# Altium schematic symbol library Altium_main_lib.SchLib: 81 symbols
Pins are listed as number, name and electrical type; pins without a type are passive.

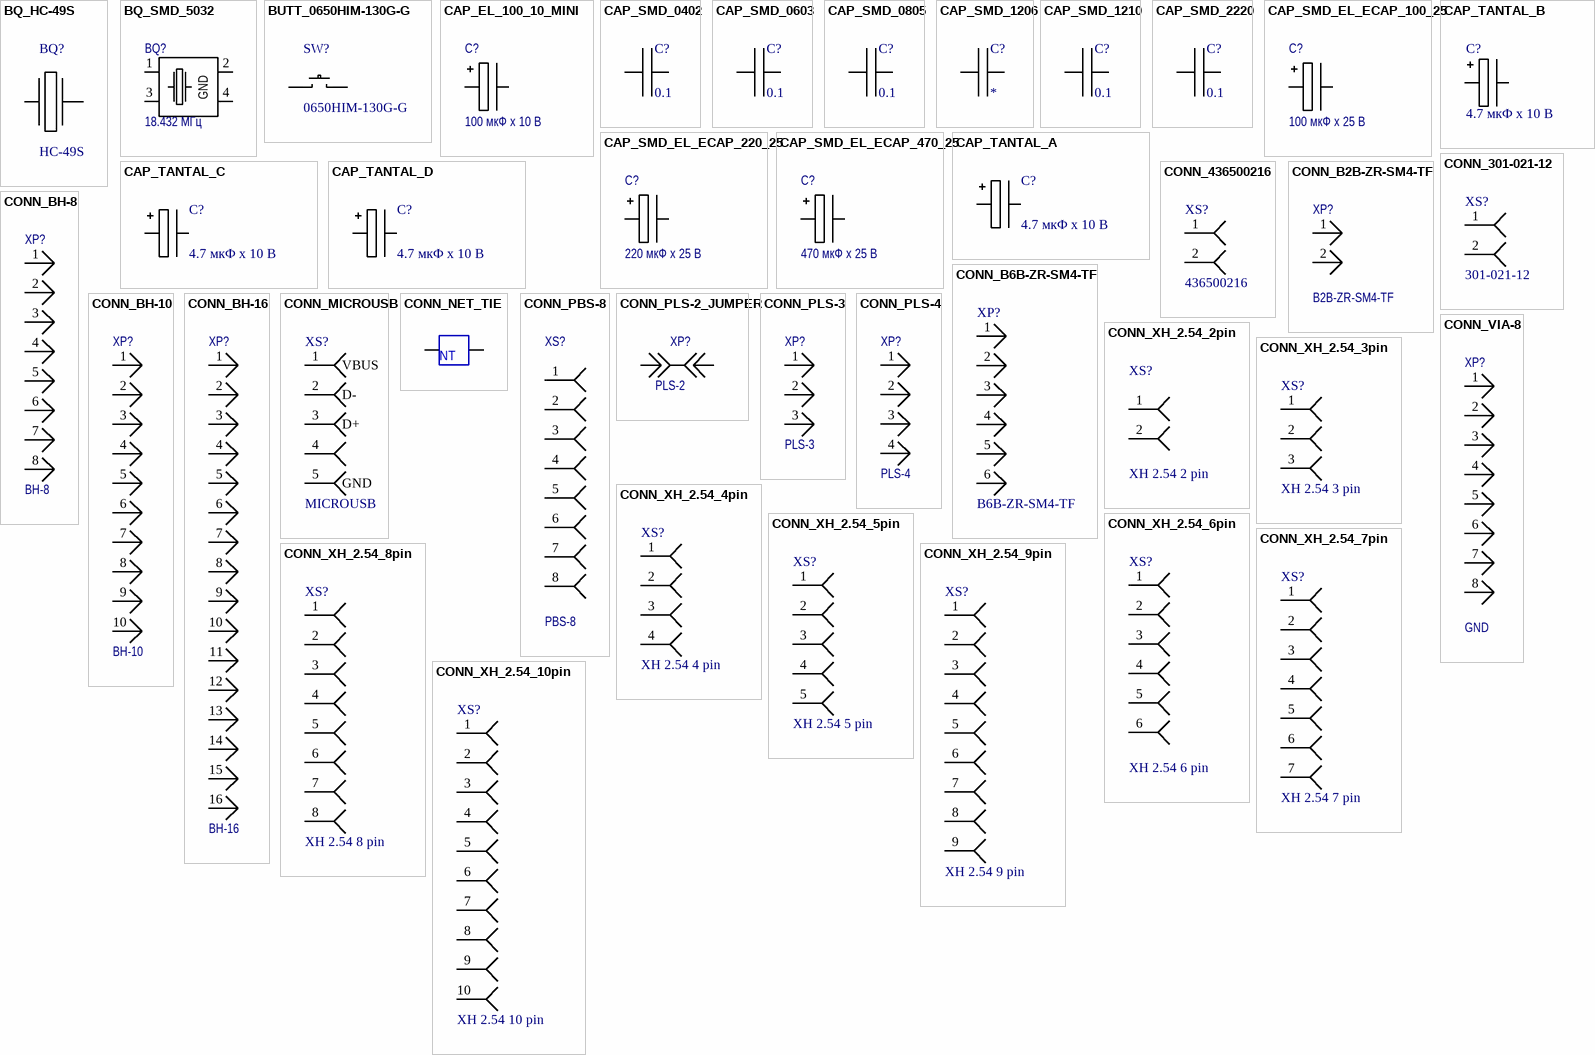
[diagram p0: symbols BQ_HC-49S to CONN_XH_2.54_10pin]

## BQ_HC-49S
designator BQ?, comment HC-49S
Кварцевый резонатор 8 Мгц; Value: HC-49S
footprint HC-49S
pins: 1, 2

## BQ_SMD_5032
designator BQ?, comment 18.432 МГц
Кварцевый резонатор, smd 5×3.2мм. Бренд / SJK; Value: 18.432 МГц
footprint BQ_SMD_5032
pins: 1 X, 2 GND, 3 X, 4 GND

## BUTT_0650HIM-130G-G
designator SW?, comment 0650HIM-130G-G
Кнопка тактовая 6х6x5; Value: 0650HIM-130G-G
footprint BUTTON
pins: 1, 2

## CAP_EL_100_10_MINI
designator C?, comment 100 мкФ x 10 В
100мкФ, 10В, 5х7мм, ECAP (К50-35 мини), Конденсатор электролитический алюминиевый миниатюрный; Value: 100 мкФ x 10 В
footprint CAP_EL_100_10_MINI
pins: 1, 2

## CAP_SMD_0402
designator C?, comment 0.1
Керамический SMD конденсатор 0402; Value: 0.1
footprint CAP_SMD_0402
pins: 1, 2

## CAP_SMD_0603
designator C?, comment 0.1
Керамический SMD конденсатор 0603; Value: 0.1
footprint CAP_SMD_0603
pins: 1, 2

## CAP_SMD_0805
designator C?, comment 0.1
Керамический SMD конденсатор 0805; Value: 0.1
footprint CAP_SMD_0805
pins: 1, 2

## CAP_SMD_1206
designator C?
Керамический SMD конденсатор 1206; Value: *
footprint CAP_SMD_1206
pins: 1, 2

## CAP_SMD_1210
designator C?, comment 0.1
Керамический SMD конденсатор 1210; Value: 0.1
footprint CAP_SMD_1210
pins: 1, 2

## CAP_SMD_2220
designator C?, comment 0.1
Керамический SMD конденсатор 2220; Value: 0.1
footprint CAP_SMD_2220
pins: 1, 2

## CAP_SMD_EL_ECAP_100_25
designator C?, comment 100 мкФ x 25 В
100мкФ, 25В, 105°C, 20%, 6.3x7.7мм, JCK1E101M063077, Конденсатор электролитический алюминиевый SMD; Value: 100 мкФ x 25 В
footprint CAP_SMD_EL_ECAP_100
pins: 1, 2

## CAP_SMD_EL_ECAP_220_25
designator C?, comment 220 мкФ x 25 В
220мкФ, 25В, 105°C, 20%, 8x10.5мм, JCK1E221M080105, Конденсатор электролитический алюминиевый SMD; Value: 220 мкФ x 25 В
footprint CAP_SMD_EL_ECAP_220
pins: 1, 2

## CAP_SMD_EL_ECAP_470_25
designator C?, comment 470 мкФ x 25 В
470мкФ, 25В, 105°C, 20%, 10x10.5мм, JCK1E471M100105, Конденсатор электролитический алюминиевый SMD; Value: 470 мкФ x 25 В
footprint CAP_SMD_EL_ECAP_470
pins: 1, 2

## CAP_TANTAL_A
designator C?, comment 4.7 мкФ x 10 В
Танталовый конденсатор размер А; Value: 4.7 мкФ x 10 В
footprint CAP_TANTAL_A
pins: 1, 2

## CAP_TANTAL_B
designator C?, comment 4.7 мкФ х 10 В
Танталовый конденсатор размер В; Value: 4.7 мкФ х 10 В
footprint CAP_TANTAL_B
pins: 1, 2

## CAP_TANTAL_C
designator C?, comment 4.7 мкФ х 10 В
Танталовый конденсатор размер С; Value: 4.7 мкФ х 10 В
footprint CAP_TANTAL_C
pins: 1, 2

## CAP_TANTAL_D
designator C?, comment 4.7 мкФ х 10 В
Танталовый конденсатор размер D; Value: 4.7 мкФ х 10 В
footprint CAP_TANTAL_D
pins: 1, 2

## CONN_301-021-12
designator XS?, comment 301-021-12
Клеммник винтовой, 2-контактный, 5мм, прямой; Value: 301-021-12
footprint CONN_301-021-12
pins: 1, 2

## CONN_436500216
designator XS?, comment 436500216
Разъем типа провод-плата, 3 мм, 2 контакт(-ов), Штыревой Разъем, Серия Micro-Fit 3.0; Value: 436500216
footprint CONN_436500216 (Footprint not found)
pins: 1, 2

## CONN_B2B-ZR-SM4-TF
designator XP?, comment B2B-ZR-SM4-TF
Разъем B2B-ZR-SM4-TF 2 контакта; Value: B2B-ZR-SM4-TF
footprint CONN_B2B-ZR-SM4-TF
pins: 1, 2

## CONN_B6B-ZR-SM4-TF
designator XP?, comment B6B-ZR-SM4-TF
Разъем B6B-ZR-SM4-TF 6 контактов; Value: B6B-ZR-SM4-TF
footprint CONN_B6B-ZR-SM4-TF
pins: 1, 2, 3, 4, 5, 6

## CONN_BH-8
designator XP?, comment BH-8
Вилка на плату прямая 8pin 2.54мм; Value: BH-8
footprint CONN_BH-8
pins: 1, 2, 3, 4, 5, 6, 7, 8

## CONN_BH-10
designator XP?, comment BH-10
Вилка на плату прямая 10pin 2.54мм; Value: BH-10
footprint CONN_BH-10
pins: 1, 2, 3, 4, 5, 6, 7, 8, 9, 10

## CONN_BH-16
designator XP?, comment BH-16
Вилка на плату прямая 16pin 2.54мм; Value: BH-16
footprint CONN_BH-16
pins: 1, 2, 3, 4, 5, 6, 7, 8, 9, 10, 11, 12, 13, 14, 15, 16

## CONN_MICROUSB
designator XS?, comment MICROUSB
Разъем Micro USB 5pin
footprint Micro_usb
pins: 1 VBUS, 2 D-, 3 D+, 4, 5 GND

## CONN_NET_TIE
designator NT?, comment NT  (value not drawn)  (net tie, no BOM)
Net tie (No BOM)
footprint CONN_NET_TIE
pins: 1 (power), 2 (power)

## CONN_PBS-8
designator XS?, comment PBS-8
Гнездо на плату 2.54мм 1х8pin прямое; Value: PBS-8
footprint CONN_PBS-8 (Гнездо на плату 2.54мм 1х8pin прямое)
pins: 1, 2, 3, 4, 5, 6, 7, 8

## CONN_PLS-2_JUMPER
designator XP?, comment PLS-2
Джампер; Value: PLS-2
footprint CONN_PLS-2_JUMPER
pins: 1, 2

## CONN_PLS-3
designator XP?, comment PLS-3
Разъем PLS-3 шаг 2.54 мм; Value: PLS-3
footprint CONN_PLS-3
pins: 1, 2, 3

## CONN_PLS-4
designator XP?, comment PLS-4
Разъем PLS-4 шаг 2.54 мм; Value: PLS-4
footprint CONN_PLS-4
pins: 1, 2, 3, 4

## CONN_VIA-8
designator XP?, comment GND  (no BOM)
Технологические отверстия; Value: GND
footprint CONN_VIA-8
pins: 1, 2, 3, 4, 5, 6, 7, 8

## CONN_XH_2.54_2pin
designator XS?, comment XH 2.54 2 pin
Разъём JST XH 2.54 2 pin; Value: XH 2.54 2 pin
footprint CONN_XH_2.54_2pin
pins: 1, 2

## CONN_XH_2.54_3pin
designator XS?, comment XH 2.54 3 pin
Разъём JST XH 2.54 3 pin; Value: XH 2.54 3 pin
footprint CONN_XH_2.54_3pin
pins: 1, 2, 3

## CONN_XH_2.54_4pin
designator XS?, comment XH 2.54 4 pin
Разъём JST XH 2.54 4 pin; Value: XH 2.54 4 pin
footprint CONN_XH_2.54_4pin
pins: 1, 2, 3, 4

## CONN_XH_2.54_5pin
designator XS?, comment XH 2.54 5 pin
Разъём JST XH 2.54 5 pin; Value: XH 2.54 5 pin
footprint CONN_XH_2.54_5pin
pins: 1, 2, 3, 4, 5

## CONN_XH_2.54_6pin
designator XS?, comment XH 2.54 6 pin
Разъём JST XH 2.54 6 pin; Value: XH 2.54 6 pin
footprint CONN_XH_2.54_6pin
pins: 1, 2, 3, 4, 5, 6

## CONN_XH_2.54_7pin
designator XS?, comment XH 2.54 7 pin
Разъём JST XH 2.54 7 pin; Value: XH 2.54 7 pin
footprint CONN_XH_2.54_7pin
pins: 1, 2, 3, 4, 5, 6, 7

## CONN_XH_2.54_8pin
designator XS?, comment XH 2.54 8 pin
Разъём JST XH 2.54 8 pin; Value: XH 2.54 8 pin
footprint CONN_XH_2.54_8pin
pins: 1, 2, 3, 4, 5, 6, 7, 8

## CONN_XH_2.54_9pin
designator XS?, comment XH 2.54 9 pin
Разъём JST XH 2.54 9 pin; Value: XH 2.54 9 pin
footprint CONN_XH_2.54_9pin
pins: 1, 2, 3, 4, 5, 6, 7, 8, 9

## CONN_XH_2.54_10pin
designator XS?, comment XH 2.54 10 pin
Разъём JST XH 2.54 10 pin; Value: XH 2.54 10 pin
footprint CONN_XH_2.54_10pin
pins: 1, 2, 3, 4, 5, 6, 7, 8, 9, 10

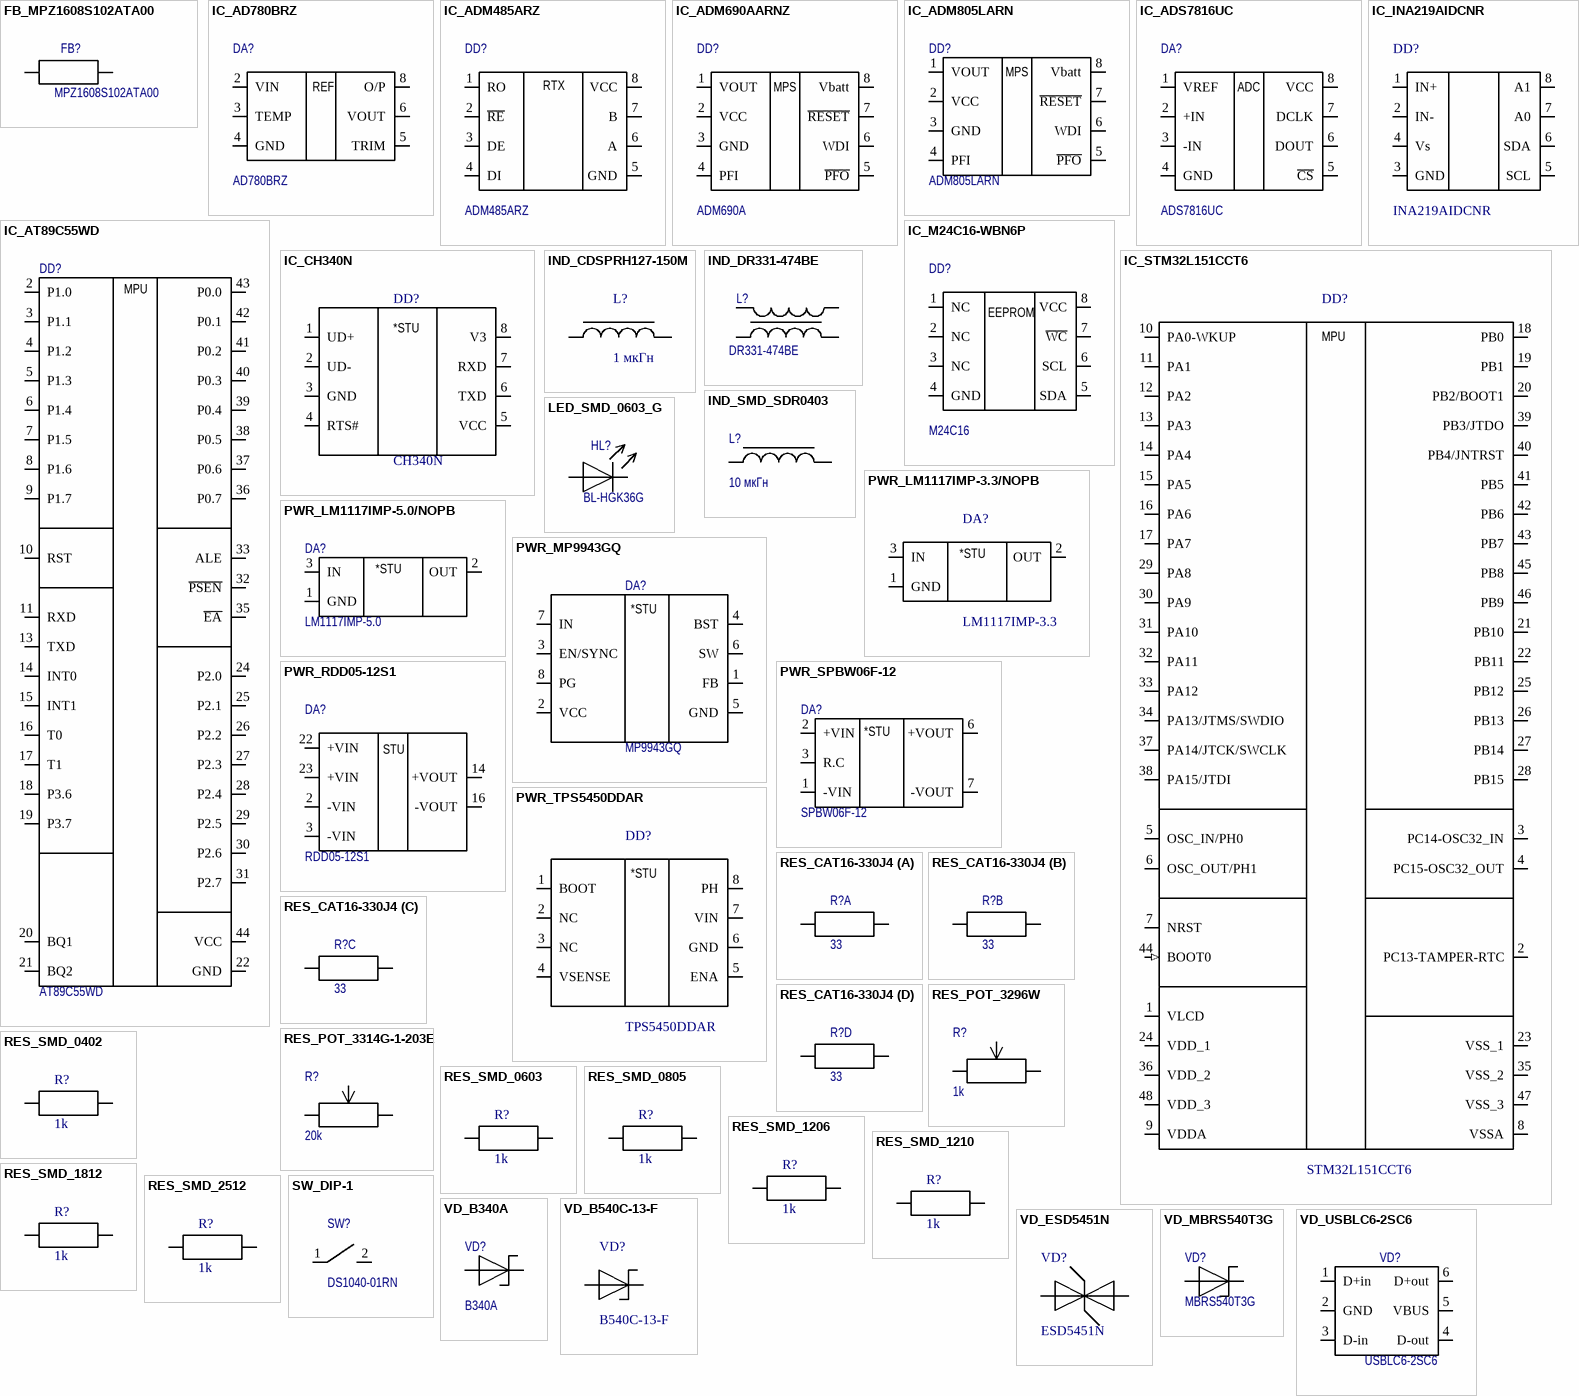
[diagram p1: symbols FB_MPZ1608S102ATA00 to VD_USBLC6-2SC6]

## FB_MPZ1608S102ATA00
designator FB?, comment MPZ1608S102ATA00
FERRITE BEAD, 1K, 0.8A, SMD 0603; Value: MPZ1608S102ATA00
footprint RES_SMD_0603
pins: 1, 2

## IC_AD780BRZ
designator DA?, comment AD780BRZ
Высокоточный источник опорного напряжения, программируемый, 2.5В, 3В [SOIC-8]; Value: AD780BRZ
footprint SOIC-8
pins: 2 VIN, 3 TEMP, 4 GND, 5 TRIM, 6 VOUT, 8 O/P
text: REF

## IC_ADM485ARZ
designator DD?, comment ADM485ARZ
Приемопередатчик RS-422/RS-485, Half-Duplex, 1/1, 5Mb/s [SOIC-8]; Value: ADM485ARZ
footprint SOIC-8
pins: 1 RO, 2 ~{RE}, 3 DE, 4 DI, 5 GND, 6 A, 7 B, 8 VCC
text: RTX

## IC_ADM690AARNZ
designator DD?, comment ADM690A
Супервизор 4.65В с переключением резервной батареи и сторожевым таймером [SOIC-8]; Value: ADM690A
footprint SOIC-8
pins: 1 VOUT, 2 VCC, 3 GND, 4 PFI, 5 ~{PFO}, 6 WDI, 7 ~{RESET}, 8 Vbatt
text: MPS

## IC_ADM805LARN
designator DD?, comment ADM805LARN
ADM805LARNZ, Processor Supervisor 4.65V 1 Active High/Active Low 8-Pin SOIC N Tube
footprint SOIC-8
pins: 1 VOUT, 2 VCC, 3 GND, 4 PFI, 5 ~{PFO}, 6 WDI, 7 ~{RESET}, 8 Vbatt
text: MPS

## IC_ADS7816UC
designator DA?, comment ADS7816UC
Преобразователь A/D, Каналы 1, 12бит, 200кsps, 4,5; Value: ADS7816UC
footprint SOIC-8
pins: 1 VREF, 2 +IN, 3 -IN, 4 GND, 5 ~{CS}, 6 DOUT, 7 DCLK, 8 VCC
text: ADC

## IC_AT89C55WD
designator DD?, comment AT89C55WD
Микроконтроллер семейства 8051 20К-Флэш-память /256-ОЗУ + сторожевой таймер; Value: AT89C55WD
footprint AT89C55WD
pins: 2 P1.0, 3 P1.1, 4 P1.2, 5 P1.3, 6 P1.4, 7 P1.5, 8 P1.6, 9 P1.7, 10 RST, 11 RXD, 13 TXD, 14 INT0, 15 INT1, 16 T0, 17 T1, 18 P3.6, 19 P3.7, 20 BQ1, 21 BQ2, 22 GND, 24 P2.0, 25 P2.1, 26 P2.2, 27 P2.3, 28 P2.4, 29 P2.5, 30 P2.6, 31 P2.7, 32 ~{PSEN}, 33 ALE, 35 ~{EA}, 36 P0.7, 37 P0.6, 38 P0.5, 39 P0.4, 40 P0.3, 41 P0.2, 42 P0.1, 43 P0.0, 44 VCC
text: MPU

## IC_CH340N
designator DD?, comment CH340N
Преобразователь интерфейса USB в UART SOP-8
footprint SOP-8
pins: 1 UD+, 2 UD-, 3 GND, 4 RTS# (power), 5 VCC, 6 TXD, 7 RXD, 8 V3 (power)
text: *STU

## IC_INA219AIDCNR
designator DD?, comment INA219AIDCNR
INA219AIDCNR, Двунаправленный монитор тока/питания с I2C интерфейсом, Zero-Drift [SOT-23-8.]; Value: INA219AIDCNR
footprint SOT-23-8
pins: 1 IN+, 2 IN-, 3 GND, 4 Vs, 5 SCL, 6 SDA, 7 A0, 8 A1

## IC_M24C16-WBN6P
designator DD?, comment M24C16
M24C16-WBN6P (EEPROM), Энергонезависимое ППЗУ 16К-бит 400КГц 8DIP; Value: M24C16
footprint PDIP-8
footprint M24C16-WBN6P
pins: 1 NC, 2 NC, 3 NC, 4 GND, 5 SDA, 6 SCL, 7 ~{WC}, 8 VCC
text: EEPROM

## IC_STM32L151CCT6
designator DD?, comment STM32L151CCT6
256 Kb Flash, 32 Kb Ram, 8 Kb Eeprom 48-pin LQFP; Value: STM32L151CCT6
footprint SMD_LQFP48
footprint SMD_LQFP48_NO_SILK
pins: 1 VLCD (power), 2 PC13-TAMPER-RTC (io), 3 PC14-OSC32_IN (io), 4 PC15-OSC32_OUT (io), 5 OSC_IN/PH0, 6 OSC_OUT/PH1, 7 NRST (io), 8 VSSA (power), 9 VDDA (power), 10 PA0-WKUP (io), 11 PA1 (io), 12 PA2 (io), 13 PA3 (io), 14 PA4 (io), 15 PA5 (io), 16 PA6 (io), 17 PA7 (io), 18 PB0 (io), 19 PB1 (io), 20 PB2/BOOT1 (io), 21 PB10 (io), 22 PB11 (io), 23 VSS_1 (power), 24 VDD_1 (power), 25 PB12 (io), 26 PB13 (io), 27 PB14 (io), 28 PB15 (io), 29 PA8 (io), 30 PA9 (io), 31 PA10 (io), 32 PA11 (io), 33 PA12 (io), 34 PA13/JTMS/SWDIO (io), 35 VSS_2 (power), 36 VDD_2 (power), 37 PA14/JTCK/SWCLK (io), 38 PA15/JTDI (io), 39 PB3/JTDO (io), 40 PB4/JNTRST (io), 41 PB5 (io), 42 PB6 (io), 43 PB7 (io), 44 BOOT0 (in), 45 PB8 (io), 46 PB9 (io), 47 VSS_3 (power), 48 VDD_3 (power)
text: MPU

## IND_CDSPRH127-150M
designator L?, comment 1 мкГн
Катушка индуктивности SMD 15мкГн, 8.4А; Value: 1 мкГн
footprint CDSPRH127-150M
pins: 1, 2

## IND_DR331-474BE
designator L?, comment DR331-474BE
Дроссель синфазный SMD 470uH +25% 0,5A 280mOhm DCR; Value: DR331-474BE
footprint IND_DR331-474BE
pins: 1, 2, 3, 4

## IND_SMD_SDR0403
designator L?, comment 10 мкГн
Индуктивность SMD SDR0403; Value: 10 мкГн
footprint SMD_IND_SDR0403
pins: 1, 2

## LED_SMD_0603_G
designator HL?, comment BL-HGK36G
Светодиод 0603 зеленый; Value: BL-HGK36G
footprint LED_SMD_0603_G
pins: A, C

## PWR_LM1117IMP-3.3/NOPB
designator DA?, comment LM1117IMP-3.3
800mA LDO Линейный стабилизатор +3 В, 0.8А [SOT-223]; Value: LM1117IMP-3.3
footprint SOT-223
pins: 1 GND, 2 OUT, 3 IN
text: *STU

## PWR_LM1117IMP-5.0/NOPB
designator DA?, comment LM1117IMP-5.0
800mA LDO Линейный стабилизатор +5 В, 0.8А [SOT-223]; Value: LM1117IMP-5.0
footprint SOT-223
pins: 1 GND, 2 OUT, 3 IN
text: *STU

## PWR_MP9943GQ
designator DA?, comment MP9943GQ
Преобразователь постоянного тока понижающий 4В...30В 8-Pin QFN лента на катушке; Value: MP9943GQ
footprint QFN-8
pins: 1 FB, 2 VCC (power), 3 EN/SYNC, 4 BST (power), 5 GND, 6 SW, 7 IN, 8 PG
text: *STU

## PWR_RDD05-12S1
designator DA?, comment RDD05-12S1
Преобразователь DC/DC, 5Вт, Uвх=9…18В, Uвых=12В/500мА; Value: RDD05-12S1
footprint DIP24_DCDC_RDD05
pins: 2 -VIN, 3 -VIN, 14 +VOUT, 16 -VOUT, 22 +VIN, 23 +VIN
text: STU

## PWR_SPBW06F-12
designator DA?, comment SPBW06F-12
DC/DC преобразователь, 6Вт, вход 9-36В, выход 12В/ 0.5A; Value: SPBW06F-12
footprint SIP8
pins: 1 -VIN, 2 +VIN, 3 R.C, 6 +VOUT, 7 -VOUT
text: *STU

## PWR_TPS5450DDAR
designator DD?, comment TPS5450DDAR
5A, DC - DC Step-Down Converter Импульсный понижающий стабилизатор напряжения; Value: TPS5450DDAR
footprint SOIC-8-POWERPAD
pins: 1 BOOT, 2 NC, 3 NC, 4 VSENSE (power), 5 ENA, 6 GND, 7 VIN, 8 PH (power)
text: *STU

## RES_CAT16-330J4
designator R?, comment 33
CAT16-330J4, 4х33 Ом, ЧИП резисторная сборка (SMD); Value: 33
footprint RES_CHIP_ARRAY_CAT16 (Chip array smd 0603x4)
part A pins: 1, 2
part B pins: 3, 4
part C pins: 5, 6
part D pins: 7, 8

## RES_POT_3296W
designator R?, comment 1k
3296W-1-102LF (СП5-2ВБ), 1 кОм, Резистор подстроечный; Value: 1k
footprint RES_POT_3296W
pins: 1, 2, 3

## RES_POT_3314G-1-203E
designator R?, comment 20k
20 кОм, Резистор подстроечный; Value: 20k
footprint RES_POT_3314G
pins: 1, 2, 3

## RES_SMD_0402
designator R?, comment 1k
Резистор SMD 0402; Value: 1k
footprint RES_SMD_0402
pins: 1, 2

## RES_SMD_0603
designator R?, comment 1k
Резистор SMD 0603; Value: 1k
footprint RES_SMD_0603
pins: 1, 2

## RES_SMD_0805
designator R?, comment 1k
Резистор SMD 0805; Value: 1k
footprint RES_SMD_0805
pins: 1, 2

## RES_SMD_1206
designator R?, comment 1k
Резистор SMD 1206; Value: 1k
footprint RES_SMD_1206
pins: 1, 2

## RES_SMD_1210
designator R?, comment 1k
Резистор SMD 1210; Value: 1k
footprint RES_SMD_1210
pins: 1, 2

## RES_SMD_1812
designator R?, comment 1k
Резистор SMD 1812; Value: 1k
footprint RES_SMD_1812
pins: 1, 2

## RES_SMD_2512
designator R?, comment 1k
Резистор SMD 2512; Value: 1k
footprint RES_SMD_2512
pins: 1, 2

## SW_DIP-1
designator SW?, comment DS1040-01RN
DIP переключатель на 1 позицию.; Value: DS1040-01RN
footprint SW_DIP-1
pins: 1, 2

## VD_B340A
designator VD?, comment B340A
Диод Шоттки 3А 40В [SMA / DO-214AC]; Value: B340A
footprint SMA
pins: 1 A, 2 C

## VD_B540C-13-F
designator VD?, comment B540C-13-F
Диод Шоттки 5А; Value: B540C-13-F
footprint DIOD_SMC
pins: 1 A, 2 C

## VD_ESD5451N
designator VD?, comment ESD5451N
ESD5451N, Защитный диод от ESD, 5В [DFN1006-2]; Value: ESD5451N
footprint SMD_DFN1006-2
pins: 1, 2

## VD_MBRS540T3G
designator VD?, comment MBRS540T3G
Диод Шоттки 5А 40В [SMC / DO-214AB]; Value: MBRS540T3G
footprint SMC
pins: 1 A, 2 C

## VD_USBLC6-2SC6
designator VD?, comment USBLC6-2SC6
Защита интерфейса USB от электростатических разрядов [SOT-23-6]; Value: USBLC6-2SC6
footprint SOT-23-6L
pins: 1 D+in, 2 GND, 3 D-in, 4 D-out, 5 VBUS, 6 D+out (power)

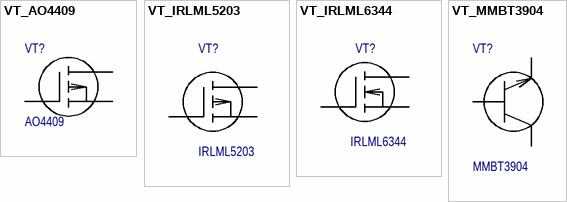
[diagram p2: symbols VT_AO4409 to VT_MMBT3904]

## VT_AO4409
designator VT?, comment AO4409
Транзистор P-MOSFET 30В 15А 3Вт; Value: AO4409
footprint SOIC-8
pins: 1 S, 4 G, 8 D

## VT_IRLML5203
designator VT?, comment IRLML5203
Транзистор P-MOSFET 30В 3A [SOT-23-3]; Value: IRLML5203
footprint SOT_23_3
pins: 1 G, 2 S, 3 D

## VT_IRLML6344
designator VT?, comment IRLML6344
Транзистор N-MOSFET 30В 5А 1.3Вт [SOT-23-3]; Value: IRLML6344
footprint SOT_23_3
pins: 1 G, 2 S, 3 D

## VT_MMBT3904
designator VT?, comment MMBT3904
Транзистор NPN, биполярный, 40В, 200мА, 350мВт, SOT23; Value: MMBT3904
footprint SOT_23_3
pins: 1 Б, 2 Э, 3 К